# Altium footprint library PiMirrorFootprint.PcbLib: 1 footprints
Each footprint in its own frame and in the unit in brackets; x right, y up, seen from the top. Pads: shape width x height; smd on the part's side, far side on the other; paste and mask are expansions set on the pad; w line width, h text height; cw(c..) or ccw(c..) is an arc to the next point about the centre after c.
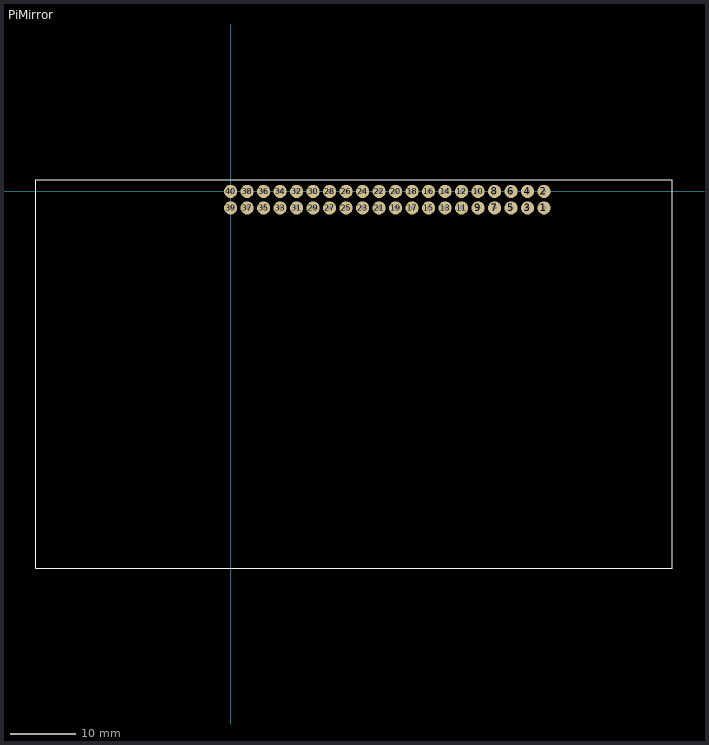
[diagram p0: the footprint, top view; thin cyan lines are the x and y axes]

## PiMirror [mil]
pads (40):
  round 80 hole 27.56: 1(1900,-100) 2(1900,0) 3(1800,-100) 4(1800,0) 5(1700,-100) 6(1700,0) 7(1600,-100) 8(1600,0) 9(1500,-100) 10(1500,0) 11(1400,-100) 12(1400,0) 13(1300,-100) 14(1300,0) 15(1200,-100) 16(1200,0) 17(1100,-100) 18(1100,0) 19(1000,-100) 20(1000,0) 21(900,-100) 22(900,0) 23(800,-100) 24(800,0) 25(700,-100) 26(700,0) 27(600,-100) 28(600,0) 29(500,-100) 30(500,0) 31(400,-100) 32(400,0) 33(300,-100) 34(300,0) 35(200,-100) 36(200,0) 37(100,-100) 38(100,0) 39(0,-100) 40(0,0)
Top Overlay:
  lines w5: -1181.1,-2283.46 2677.17,-2283.46 2677.17,70 -1181.1,70 -1181.1,-2283.46